# Altium footprint library CrystalOscillators.PcbLib: 2 footprints
Each footprint in its own frame and in the unit in brackets; x right, y up, seen from the top. Pads: shape width x height; smd on the part's side, far side on the other; paste and mask are expansions set on the pad; w line width, h text height; cw(c..) or ccw(c..) is an arc to the next point about the centre after c.
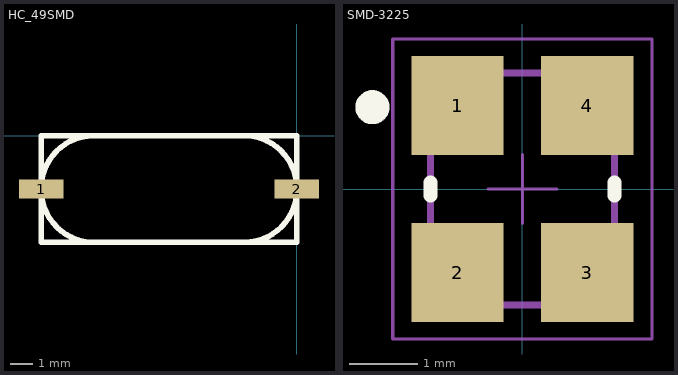
[diagram p0: the footprints below, top view; thin cyan lines are the x and y axes]

## HC_49SMD [mm]
pads (2):
  rect 2x0.85 smd: 1(-11.5,-2.4) 2(0,-2.4)
Top Overlay:
  lines w0.254: -11.5,-2.469 -11.5,-2.4 ; -11.5,-2.468 ccw(c-9.135,-2.435) -9.102,-4.8 ; -11.5,-2.398 cw(c-9.135,-2.365) -9.168,0 ; -2.398,0 cw(c-2.365,-2.365) 0,-2.332 ; -2.332,-4.8 ccw(c-2.365,-2.435) 0,-2.402 ; 0,-2.4 0,-2.331 ; -11.5,-4.8 0,-4.8 0,0 -11.5,0 -11.5,-4.8

## SMD-3225 [mm]
pads (4):
  rect 1.35x1.45 smd: 1(-0.95,1.225) 2(-0.95,-1.225) 3(0.95,-1.225) 4(0.95,1.225)
Top Overlay:
  circle w0.25: c-2.2,1.201 r0.125
  lines w0.2: -1.35,-0.1 -1.35,0.1 ; 1.35,-0.1 1.35,0.1
Mechanical 15:
  lines w0.1: -1.35,1.101 -0.75,1.701 ; -1.35,1.201 -0.85,1.701 ; -1.35,1.301 -0.95,1.701 ; -1.35,1.401 -1.05,1.701 ; -1.35,1.501 -1.15,1.701 ; -1.35,1.601 -1.25,1.701 ; -1.35,-1.699 1.35,-1.699 1.35,1.701 -1.35,1.701 -1.35,-1.699
  text "1" at 0.45,-0.163 h0.75
Mechanical 20:
  lines w0.05: -0.5,0.001 0.5,0.001 ; 0,-0.499 0,0.501 ; -1.9,-2.199 1.9,-2.199 1.9,2.201 -1.9,2.201 -1.9,-2.199
Mechanical 21:
  lines w0.001: -1.35,-1.699 1.35,-1.699 1.35,1.701 -1.35,1.701 -1.35,-1.699